# EAGLE library part KXTJ3-1057 (library KXTJ3-1057)
Mems Accelerometer, 2G/4G/8G, Lga-12
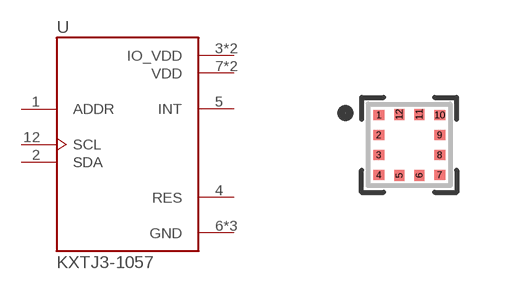
[diagram p0: symbol with the pads of KIONIX_KXTJ3-1057; footprint KIONIX_KXTJ3-1057]

Designator prefix U

## KXTJ3-1057 (AVAILABILITY: Unavailable; DESCRIPTION: Mems Accelerometer, 2G/4G/8G, Lga-12; MF: Kionix Inc.; MP: KXTJ3-1057; PACKAGE: LGA-12 Kionix; PRICE: None)  [KIONIX_KXTJ3-1057]
1  ADDR  in
2  SDA
3  IO_VDD  pwr
4  RES  pas
5  INT  out
6  GND  pwr
7  VDD  pwr
8  GND  pwr
9  GND  pwr
10  VDD  pwr
11  IO_VDD  pwr
12  SCL  in

## Footprint KIONIX_KXTJ3-1057 (pad centres in mm)
smd 0.275 x 0.25: 1 -0.762,0.75; 2 -0.762,0.25; 3 -0.762,-0.25; 4 -0.762,-0.75; 7 0.762,-0.75; 8 0.762,-0.25; 9 0.762,0.25; 10 0.762,0.75
smd 0.25 x 0.275: 5 -0.25,-0.762; 6 0.25,-0.762; 11 0.25,0.762; 12 -0.25,0.762